# Altium integrated library Integrated_Library_Resistors.IntLib: 7 symbols
Pins are listed as number, name and electrical type; pins without a type are passive.

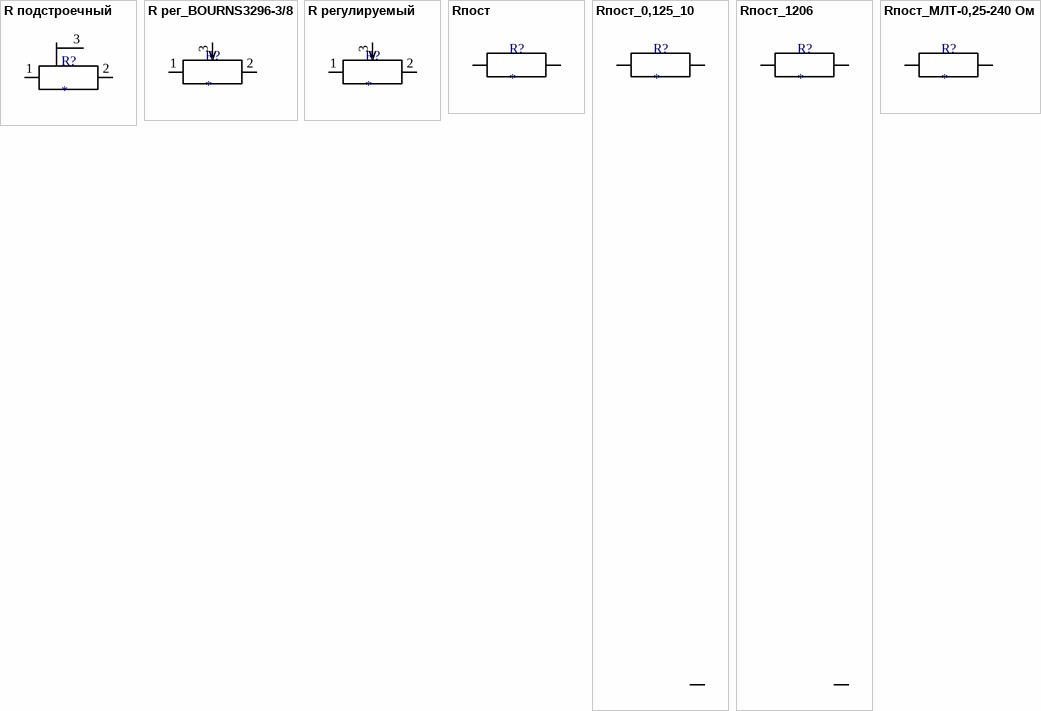
[diagram p0: symbols R подстроечный to Rпост_МЛТ-0,25-240 Ом]

## R подстроечный
designator R?
pins: 1, 2, 3

## R рег_BOURNS3296-3/8
designator R?
footprint R рег_BOURNS3296-3/8
pins: 1, 2, 3

## R регулируемый
designator R?
pins: 1, 2, 3

## Rпост
designator R?
pins: 1, 2

## Rпост_0,125_10
designator R?
footprint R_ 0,125_10
pins: 1, 2

## Rпост_1206
designator R?
footprint R_1206
pins: 1, 2

## Rпост_МЛТ-0,25-240 Ом
designator R?
footprint R_МЛТ-0,25-240 Ом
pins: 1, 2